# Altium footprint library ERF8-020-XX.X-X-DV-L.PcbLib: 1 footprints
Each footprint in its own frame and in the unit in brackets; x right, y up, seen from the top. Pads: shape width x height; smd on the part's side, far side on the other; paste and mask are expansions set on the pad; w line width, h text height; cw(c..) or ccw(c..) is an arc to the next point about the centre after c.
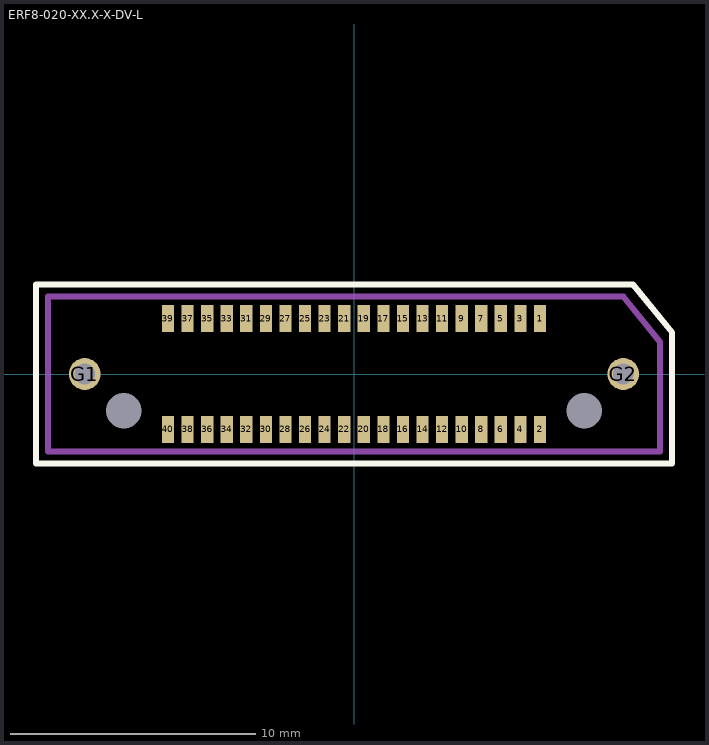
[diagram p0: the footprint, top view; thin cyan lines are the x and y axes]

## ERF8-020-XX.X-X-DV-L [mm]
pads (44):
  rect 0.5x1.1 smd mask+0.05: 1(7.6,2.261) 2(7.6,-2.261) 3(6.8,2.261) 4(6.8,-2.261) 5(6,2.261) 6(6,-2.261) 7(5.2,2.261) 8(5.2,-2.261) 9(4.4,2.261) 10(4.4,-2.261) 11(3.6,2.261) 12(3.6,-2.261) 13(2.8,2.261) 14(2.8,-2.261) 15(2,2.261) 16(2,-2.261) 17(1.2,2.261) 18(1.2,-2.261) 19(0.4,2.261) 20(0.4,-2.261) 21(-0.4,2.261) 22(-0.4,-2.261) 23(-1.2,2.261) 24(-1.2,-2.261) 25(-2,2.261) 26(-2,-2.261) 27(-2.8,2.261) 28(-2.8,-2.261) 29(-3.6,2.261) 30(-3.6,-2.261) 31(-4.4,2.261) 32(-4.4,-2.261) 33(-5.2,2.261) 34(-5.2,-2.261) 35(-6,2.261) 36(-6,-2.261) 37(-6.8,2.261) 38(-6.8,-2.261) 39(-7.6,2.261) 40(-7.6,-2.261)
  round 1.3 hole 0.838 mask+0.075: G1(-11,0) G2(11,0)
  round 0 hole 1.45 unplated: MH1(-9.4,-1.5) MH2(9.4,-1.5)
Top Overlay:
  lines w0.25: -13,-3.661 13,-3.661 13,1.7 11.4,3.661 -13,3.661 -13,-3.661
Mechanical 1:
  lines w0.25: -12.5,-3.161 12.5,-3.161 12.5,1.3 11,3.161 -12.5,3.161 -12.5,-3.161
  text "J1" at -0.491,-0.502 h0.75